# Altium footprint library Virtex.PcbLib: 51 footprints (part 1 of 4)
Each footprint in its own frame and in the unit in brackets; x right, y up, seen from the top. Pads: shape width x height; smd on the part's side, far side on the other; paste and mask are expansions set on the pad; w line width, h text height; cw(c..) or ccw(c..) is an arc to the next point about the centre after c.
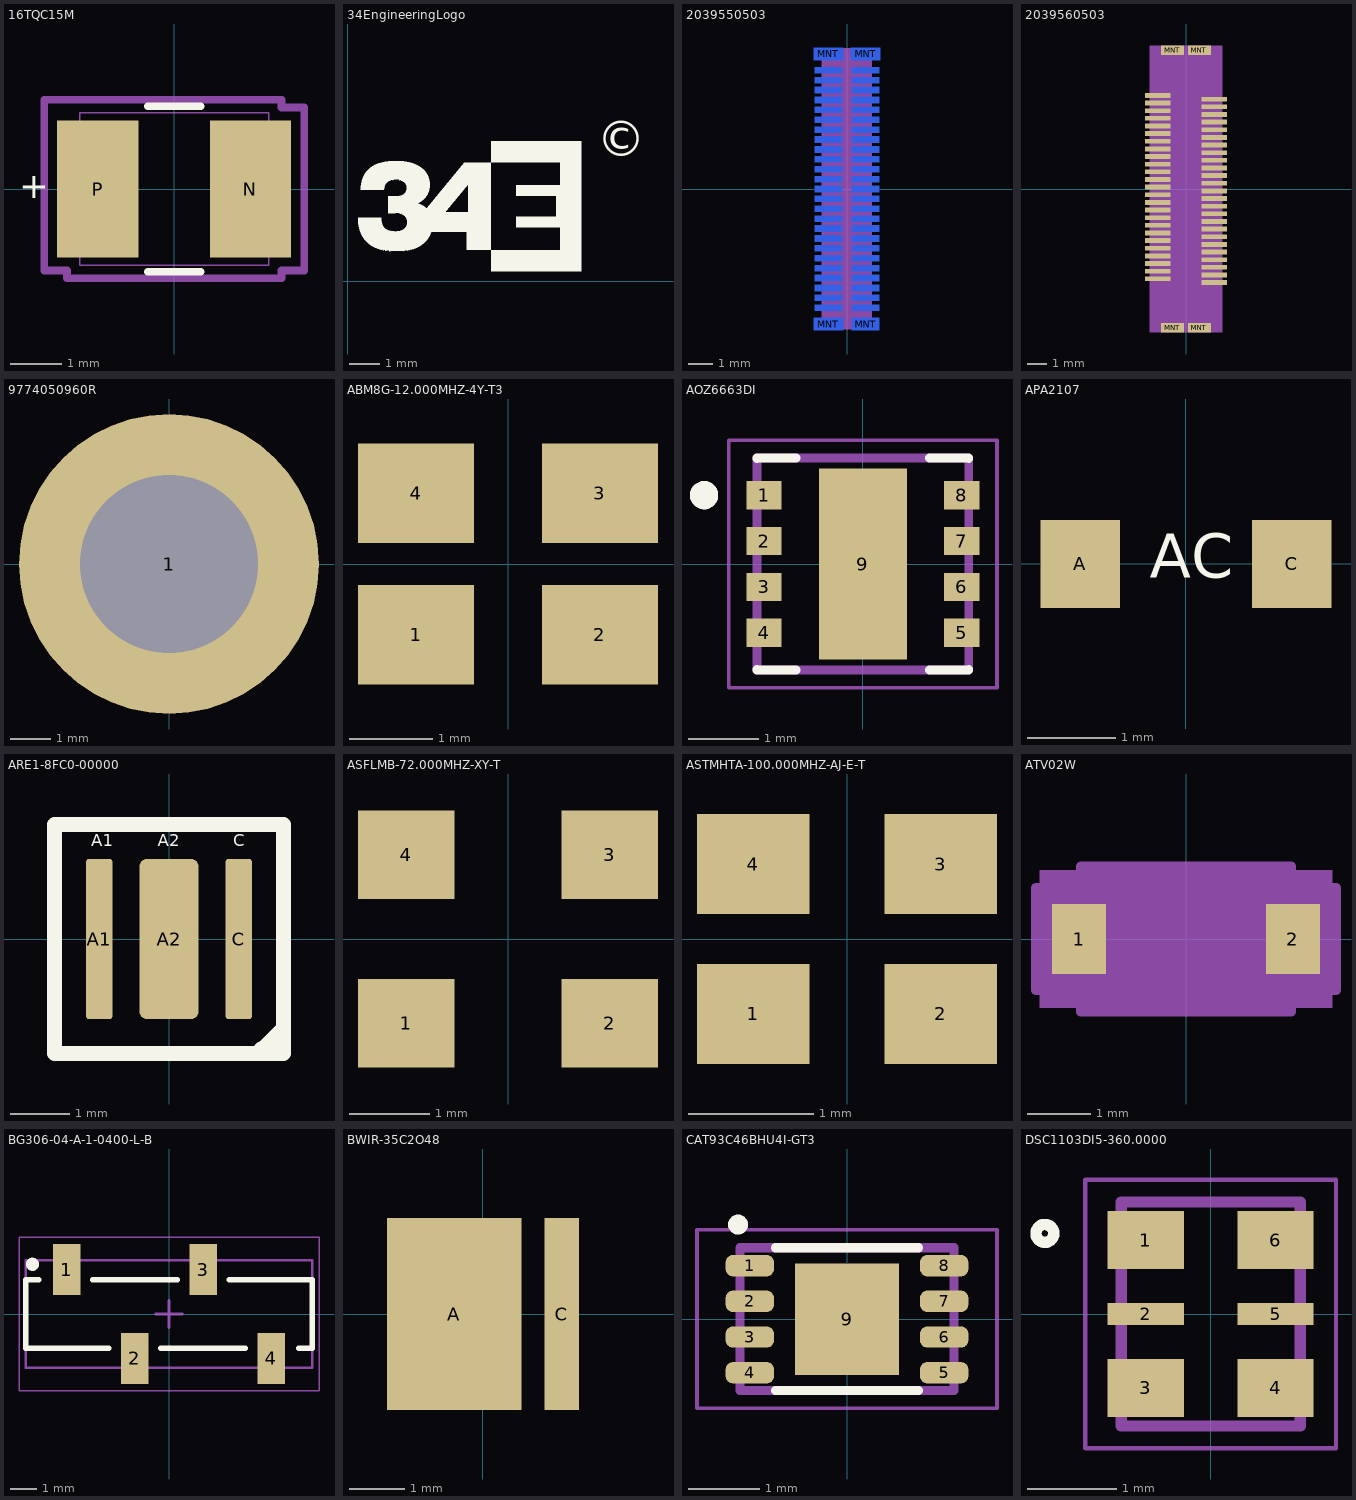
[diagram p0: the footprints below, top view; thin cyan lines are the x and y axes]

## 16TQC15M [mil]
pads (2):
  rect 63x106 smd paste+0 mask+0: N(59,0) P(-59,0)
Top Overlay:
  lines w6: -20.39,-64 20.39,-64 ; -20.39,64 20.39,64
  text "+" at -120.08,-7.27 h20
Mechanical 13:
  lines w1: -73,-59 73,-59 73,59 -73,59 -73,-59
Mechanical 15:
  lines w6: -100.5,-63 -100.5,69 -83,69 83,69 83,63 100.5,63 100.5,-63 83,-63 83,-69 -83,-69 -83,-63 -100.5,-63
3D body: height 10, standoff 0, extent 0,0 10,10
3D body "16TQC15M.step": height 79.52, standoff 0.5, extent -72.99,-59.09 73,59.1

## 34EngineeringLogo [mm]
Top Overlay:
  drawing of 1 lines, arcs and shapes, not listed
  text "©" at 8.104,3.675 h2

## 2039550503 [mm]
pads (54):
  rect 1.1x0.25 smd far side paste+0 mask+0: 1(-0.75,4.8) 2(-0.75,4.4) 3(-0.75,4) 4(-0.75,3.6) 5(-0.75,3.2) 6(-0.75,2.8) 7(-0.75,2.4) 8(-0.75,2) 9(-0.75,1.6) 10(-0.75,1.2) 11(-0.75,0.8) 12(-0.75,0.4) 13(-0.75,0) 14(-0.75,-0.4) 15(-0.75,-0.8) 16(-0.75,-1.2) 17(-0.75,-1.6) 18(-0.75,-2) 19(-0.75,-2.4) 20(-0.75,-2.8) 21(-0.75,-3.2) 22(-0.75,-3.6) 23(-0.75,-4) 24(-0.75,-4.8) 24(-0.75,-4.4) 26(0.75,-4.8) 27(0.75,-4.4) 28(0.75,-4) 29(0.75,-3.6) 30(0.75,-3.2) 31(0.75,-2.8) 32(0.75,-2.4) 33(0.75,-2) 34(0.75,-1.6) 35(0.75,-1.2) 36(0.75,-0.8) 37(0.75,-0.4) 38(0.75,0) 39(0.75,0.4) 40(0.75,0.8) 41(0.75,1.2) 42(0.75,1.6) 43(0.75,2) 44(0.75,2.4) 45(0.75,2.8) 46(0.75,3.2) 47(0.75,3.6) 48(0.75,4) 49(0.75,4.4) 50(0.75,4.8)
  rect 1.2x0.5 smd far side paste+0 mask+0: MNT(-0.75,-5.465) MNT(-0.75,5.465) MNT(0.75,5.465)
  rect 1.1x0.5 smd far side paste+0 mask+0: MNT(0.75,-5.465)
Bottom Courtyard:
  region: -1.025,5.7 1,5.7 1,-5.675 -1.025,-5.675
3D body "2039550503.step": height -1.61, standoff -4.51, extent -1,-5.68 1,5.68

## 2039560503 [mm]
pads (54):
  rect 1.35x0.25 smd paste+0 mask+0: 1(-1.475,4.9) 2(-1.475,4.5) 3(-1.475,4.1) 4(-1.475,3.7) 5(-1.475,3.3) 6(-1.475,2.9) 7(-1.475,2.5) 8(-1.475,2.1) 9(-1.475,1.7) 10(-1.475,1.3) 11(-1.475,0.9) 12(-1.475,0.5) 13(-1.475,0.1) 14(-1.475,-0.3) 15(-1.475,-0.7) 16(-1.475,-1.1) 17(-1.475,-1.5) 18(-1.475,-1.9) 19(-1.475,-2.3) 20(-1.475,-2.7) 21(-1.475,-3.1) 22(-1.475,-3.5) 23(-1.475,-3.9) 24(-1.475,-4.7) 24(-1.475,-4.3) 26(1.475,-4.9) 27(1.475,-4.5) 28(1.475,-4.1) 29(1.475,-3.7) 30(1.475,-3.3) 31(1.475,-2.9) 32(1.475,-2.5) 33(1.475,-2.1) 34(1.475,-1.7) 35(1.475,-1.3) 36(1.475,-0.9) 37(1.475,-0.5) 38(1.475,-0.1) 39(1.475,0.3) 40(1.475,0.7) 41(1.475,1.1) 42(1.475,1.5) 43(1.475,1.9) 44(1.475,2.3) 45(1.475,2.7) 46(1.475,3.1) 47(1.475,3.5) 48(1.475,3.9) 49(1.475,4.3) 50(1.475,4.7)
  rect 1.2x0.5 smd paste+0 mask+0: MNT(-0.7,-7.25) MNT(-0.7,7.25) MNT(0.7,-7.25) MNT(0.7,7.25)
Top Courtyard:
  region: -1.9,7.5 1.9,7.5 1.9,-7.5 -1.9,-7.5
3D body "2039560503.step": height 4.35, standoff 0, extent -1.9,-7.5 1.9,7.5

## 9774050960R [mm]
pads (1):
  round 7.4 hole 4.4 unplated: 1(0,0)
3D body "9774050960R.step": height 5, standoff -1.4, extent -3,-3 3,3

## ABM8G-12.000MHZ-4Y-T3 [mil]
pads (4):
  rect 55x47 smd: 1(-43.5,-33.5) 2(43.5,-33.5) 3(43.5,33.5) 4(-43.5,33.5)
3D body "ABM8G-12.000MHZ-4Y-T3.STEP": height 39.37, standoff 0, extent -62.98,-49.21 63,49.22

## AOZ6663DI [mm]
pads (9):
  rect 0.5x0.4 smd: 1(-1.4,0.975) 2(-1.4,0.325) 3(-1.4,-0.325) 4(-1.4,-0.975) 5(1.4,-0.975) 6(1.4,-0.325) 7(1.4,0.325) 8(1.4,0.975)
  rect 1.25x2.7 smd paste-2: 9(0,0)
Top Overlay:
  circle w0.2: c-2.25,0.975 r0.1
  lines w0.127: -1.5,-1.495 -1.5,-1.5 -0.945,-1.5 ; -1.5,1.495 -1.5,1.5 -0.945,1.5 ; 0.945,-1.5 1.5,-1.5 1.5,-1.495 ; 0.945,1.5 1.5,1.5 1.5,1.495
Top Paste:
  region: 0.395,-0.855 -0.395,-0.855 -0.395,0.855 0.395,0.855
Mechanical 13:
  circle w0.2: c-2.25,0.975 r0.1
  lines w0.127: -1.5,-1.5 -1.5,1.5 1.5,1.5 1.5,-1.5 -1.5,-1.5
Mechanical 15:
  lines w0.05: -1.9,-1.75 -1.9,1.75 1.9,1.75 1.9,-1.75 -1.9,-1.75
3D body "step_temp.STEP": height 0.9, standoff 0, extent -1.6,-1.6 1.6,1.6

## APA2107 [mm]
pads (2):
  rect 0.9x1 smd: A(-1.2,0) C(1.2,0)
Top Overlay:
  text "AC" at -0.408,-0.154 h0.5
3D body "APA2107.STEP": height 0.6, standoff 0, extent -1.05,-0.001 1.05,1

## ARE1-8FC0-00000 [mm]
pads (3):
  rrect25% 0.45x2.7 smd: A1(-1.175,0) C(1.175,0)
  rrect25% 1x2.7 smd: A2(0,0)
Top Overlay:
  lines w0.254: 1.549,-1.854 1.549,-1.88 1.88,-1.549 ; -1.925,-1.925 1.925,-1.925 1.925,1.925 -1.925,1.925 -1.925,-1.925
  text "C" at 1.081,1.564 h0.2
  text "A2" at -0.189,1.564 h0.2
  text "A1" at -1.306,1.564 h0.2
3D body "ARE1-8FC0-00000.step": height 1.51, standoff 0, extent -1.945,-1.95 1.905,1.9

## ASFLMB-72.000MHZ-XY-T [mm]
pads (4):
  rect 1.2x1.1 smd: 1(-1.27,-1.05) 2(1.27,-1.05) 3(1.27,1.05) 4(-1.27,1.05)
3D body "ASFLMB-72.000MHZ-XY-T.step": height 0.84, standoff -0.01, extent -2.5,-1.6 2.5,1.6

## ASTMHTA-100.000MHZ-AJ-E-T [mm]
pads (4):
  rect 0.9x0.8 smd: 1(-0.75,-0.6) 2(0.75,-0.6) 3(0.75,0.6) 4(-0.75,0.6)
3D body "ASTMHTA-100-000MHZ-AJ-E-T.step": height 0.75, standoff 0, extent -1,-0.8 1,0.8

## ATV02W [mil]
pads (2):
  rect 34x44 smd paste+0 mask+0: 1(-67,0) 2(67,0)
Bottom Courtyard:
  region: 91.5,-43 -91.5,-43 -91.5,43 91.5,43
Mechanical 13:
  lines w1: -56,-17.75 -38.25,-35.5 ; -56,17.75 -38.25,35.5 ; -76,-22 -76,22 -56,22 -56,-22 -76,-22 ; -56,-35.5 56,-35.5 56,35.5 -56,35.5 -56,-35.5 ; 56,-22 56,22 76,22 76,-22 56,-22
  text "*" at -58.5,-25 h50
Mechanical 15:
  region: -66,-32 -94,-32 -94,32 -66,32 -66,45.5 66,45.5 66,32 94,32 94,-32 66,-32 66,-45.5 -66,-45.5
  lines w6: -94,-32 -94,32 -66,32 -66,45.5 66,45.5 66,32 94,32 94,-32 66,-32 66,-45.5 -66,-45.5 -66,-32 -94,-32
3D body "ATV02W.step": height 32.24, standoff 0, extent -75.98,-35.51 75.98,35.51

## BG306-04-A-1-0400-L-B [mm]
pads (4):
  rect 1.02x1.9 smd: 1(-3.81,1.65) 2(-1.27,-1.65) 3(1.27,1.65) 4(3.81,-1.65)
Top Overlay:
  circle w0.25: c-5.08,1.85 r0.12
  lines w0.2: -4.84,1.27 -5.33,1.27 -5.33,-1.27 -2.24,-1.27 ; -2.84,1.27 0.3,1.27 ; -0.3,-1.27 2.84,-1.27 ; 2.24,1.27 5.33,1.27 5.33,-1.27 4.83,-1.27
Mechanical 13:
  lines w0.1: -5.33,-2 -5.33,2 5.33,2 5.33,-2 -5.33,-2
Mechanical 15:
  lines w0.05: -5.58,-2.85 5.58,-2.85 5.58,2.85 -5.58,2.85 -5.58,-2.85
  lines w0.1: -0.5,0 0.5,0 ; 0,-0.5 0,0.5
3D body "BG306-04-A-1-0400-L-B.step": height 5.1, standoff 0, extent -5.35,-2 5.31,2

## BWIR-35C2O48 [mm]
pads (2):
  rect 2.45x3.5 smd paste+0: A(-0.525,0)
  rect 0.625x3.5 smd paste+0: C(1.438,0)
3D body "BWIR-35C2O48.step": height 2, standoff -0.01, extent -1.75,-1.75 1.75,1.75

## CAT93C46BHU4I-GT3 [mm]
pads (9):
  rrect70% 0.68x0.3 smd: 1(-1.36,0.75) 2(-1.36,0.25) 3(-1.36,-0.25) 4(-1.36,-0.75) 5(1.36,-0.75) 6(1.36,-0.25) 7(1.36,0.25) 8(1.36,0.75)
  rect 1.45x1.56 smd paste-2: 9(0,0)
Top Overlay:
  circle w0.14: c-1.525,1.325 r0.07
  lines w0.127: -1,-1 1,-1 ; -1,1 1,1
Top Paste:
  region: 0.41,-0.44 -0.41,-0.44 -0.41,0.44 0.41,0.44
Mechanical 13:
  lines w0.127: -1.5,-1 1.5,-1 1.5,1 -1.5,1 -1.5,-1
Mechanical 15:
  lines w0.05: -2.1,-1.25 2.1,-1.25 2.1,1.25 -2.1,1.25 -2.1,-1.25
3D body "CAT93C46BHU4I-GT3.step": height 0.55, standoff -0.05, extent -1.525,-1.025 1.525,1.025

## DSC1103DI5-360.0000 [mm]
pads (6):
  rect 0.85x0.65 smd: 1(-0.725,0.825) 3(-0.725,-0.825) 4(0.725,-0.825) 6(0.725,0.825)
  rect 0.85x0.25 smd: 2(-0.725,0) 5(0.725,0)
Top Overlay:
  circle w0.127: c-1.85,0.9 r0.1
Mechanical 13:
  lines w0.127: -1,-1.25 1,-1.25 1,1.25 -1,1.25 -1,-1.25
Mechanical 15:
  lines w0.05: -1.4,-1.5 1.4,-1.5 1.4,1.5 -1.4,1.5 -1.4,-1.5
3D body "step_temp.STEP": height 0.88, standoff -0.02, extent -1,-1.25 1,1.25